# Altium footprint library CAP_0402.PcbLib: 1 footprints
Each footprint in its own frame and in the unit in brackets; x right, y up, seen from the top. Pads: shape width x height; smd on the part's side, far side on the other; paste and mask are expansions set on the pad; w line width, h text height; cw(c..) or ccw(c..) is an arc to the next point about the centre after c.
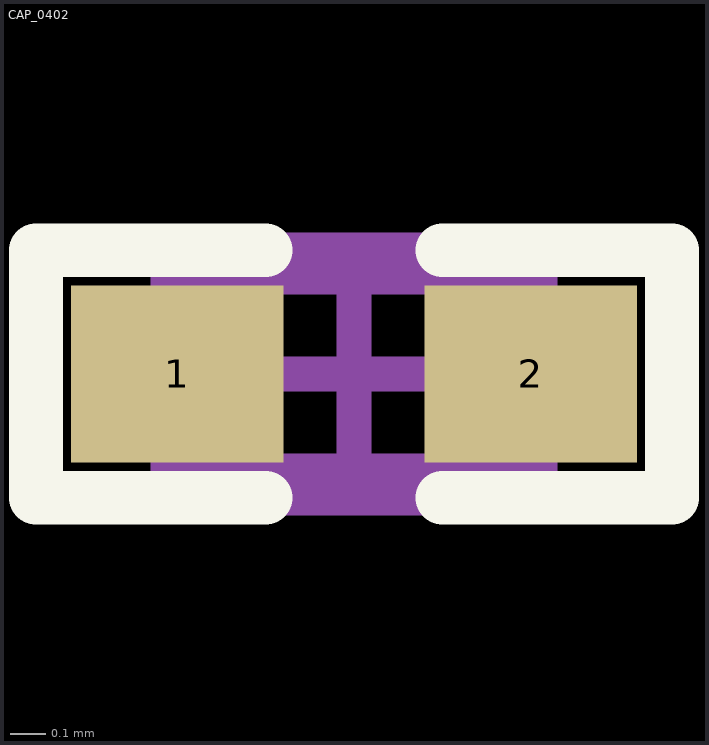
[diagram p0: the footprint, top view; thin cyan lines are the x and y axes]

## CAP_0402 [mm]
pads (2):
  rect 0.6x0.5 smd: 1(-1257.292,-1262.736) 2(-1256.292,-1262.736)
Top Overlay:
  lines w0.152: -1257.042,-1263.086 -1257.692,-1263.086 -1257.692,-1262.386 -1257.042,-1262.386 ; -1256.542,-1263.086 -1255.892,-1263.086 -1255.892,-1262.386 -1256.542,-1262.386
Mechanical 13:
  lines w0.1: -1257.317,-1263.011 -1257.317,-1262.461 -1256.267,-1262.461 -1256.267,-1263.011 -1257.317,-1263.011
Mechanical 15:
  lines w0.1: -1257.067,-1262.736 -1256.517,-1262.736 ; -1256.792,-1263.011 -1256.792,-1262.461 ; -1257.692,-1263.086 -1255.892,-1263.086 -1255.892,-1262.386 -1257.692,-1262.386 -1257.692,-1263.086
3D body: height 0.5, standoff -0.01, extent -1257.3,-1262.989 -1256.284,-1262.481